# EAGLE library part TPS62160DGKR (library princessPhone)
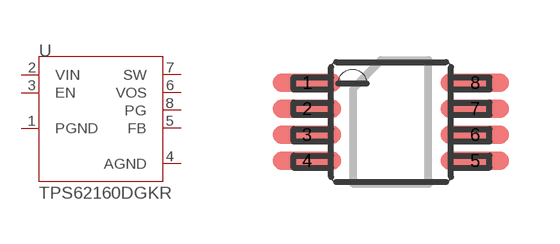
[diagram p1: symbol with the pads of DGK0008A_N; footprint DGK0008A_N]

Designator prefix U

## TPS62160DGKR (ALTERNATEPARTNUMBER: TPS62160DGKT; APPLICATION_BUILDNUMBER: *; COMPTYPE: IC; MANUFACTURER: Texas Instruments; MOUNTTYPE: SMT; PACKAGEREFERENCE: DGK0008A; PARTNUMBER: TPS62160DGKR; PIN_COUNT: 8; REFDES: RefDes; ROHS: Y; TYPE: TYPE; VALUE: Value)  [DGK0008A_N]
1  PGND  pwr
2  VIN  pwr
3  EN  in
4  AGND  pwr
5  FB  in
6  VOS  in
7  SW  pwr
8  PG  hiz

## Footprint DGK0008A_N (pad centres in mm)
smd 1.702 x 0.457: 1 -2.1,0.975; 2 -2.1,0.325; 3 -2.1,-0.325; 4 -2.1,-0.975; 5 2.1,-0.975; 6 2.1,-0.325; 7 2.1,0.325; 8 2.1,0.975